# Altium footprint library Battery.PcbLib: 2 footprints
Each footprint in its own frame and in the unit in brackets; x right, y up, seen from the top. Pads: shape width x height; smd on the part's side, far side on the other; paste and mask are expansions set on the pad; w line width, h text height; cw(c..) or ccw(c..) is an arc to the next point about the centre after c.
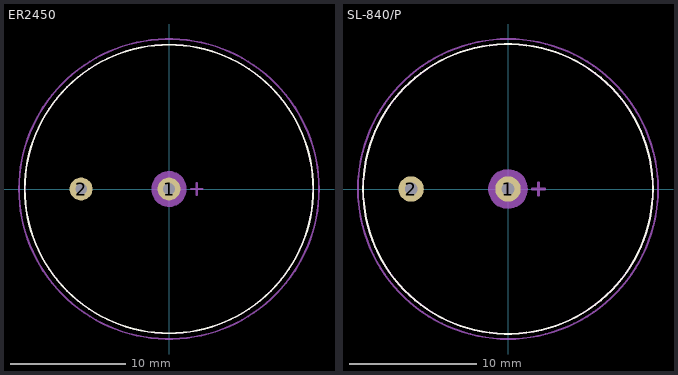
[diagram p0: the footprints below, top view; thin cyan lines are the x and y axes]

## ER2450 [mm]
pads (2):
  round 2 hole 1: 1(0,0) 2(-7.62,0)
Top Overlay:
  circle w0.153: c0,0 r12.5
Top Assembly:
  circle w0.1: c0,0 r1.5
  circle w0.1: c0,0 r12.5
  region: 0,-1.5 -0.148,-1.5 -0.438,-1.442 -0.711,-1.329 -0.956,-1.165 -1.165,-0.956 -1.329,-0.711 -1.442,-0.438 -1.5,-0.148 -1.5,0 -1.5,0.148 -1.442,0.438 -1.329,0.711 -1.165,0.956 -0.956,1.165 -0.711,1.329 -0.438,1.442 -0.148,1.5 0,1.5 0.148,1.5 0.438,1.442 0.711,1.329 0.956,1.165 1.165,0.956 1.329,0.711 1.442,0.438 1.5,0.148 1.5,0 1.5,-0.148 1.442,-0.438 1.329,-0.711 1.165,-0.956 0.956,-1.165 0.711,-1.329 0.438,-1.442 0.148,-1.5
  lines w0.2: 1.9,0 2.9,0 ; 2.4,-0.5 2.4,0.5
  text "'.Designator'" at -4.532,-0.333 h0.8
Top Courtyard (Mech6):
  circle w0.153: c0,0 r13
  lines w0.153: -0.3,0 0.3,0 ; 0,-0.3 0,0.3
3D body "ER2450.step": height 5.5, standoff -4.5, extent -12.25,-12.248 12.25,12.25

## SL-840/P [mm]
pads (2):
  round 2 hole 1: 1(0,0) 2(-7.62,0)
Top Overlay:
  circle w0.153: c0,0 r11.4
Top Assembly:
  circle w0.1: c0,0 r11.4
  circle w0.1: c0,0 r1.5
  region: 0,-1.5 -0.148,-1.5 -0.438,-1.442 -0.711,-1.329 -0.956,-1.165 -1.165,-0.956 -1.329,-0.711 -1.442,-0.438 -1.5,-0.148 -1.5,0 -1.5,0.148 -1.442,0.438 -1.329,0.711 -1.165,0.956 -0.956,1.165 -0.711,1.329 -0.438,1.442 -0.148,1.5 0,1.5 0.148,1.5 0.438,1.442 0.711,1.329 0.956,1.165 1.165,0.956 1.329,0.711 1.442,0.438 1.5,0.148 1.5,0 1.5,-0.148 1.442,-0.438 1.329,-0.711 1.165,-0.956 0.956,-1.165 0.711,-1.329 0.438,-1.442 0.148,-1.5
  lines w0.2: 1.9,0 2.9,0 ; 2.4,-0.5 2.4,0.5
Top Courtyard (Mech6):
  circle w0.153: c0,0 r11.8
  lines w0.153: -0.3,0 0.3,0 ; 0,-0.3 0,0.3
3D body "Untitled.step": height 7, standoff -4.7, extent -11.4,-11.397 11.4,11.397